# Altium footprint library IC_Texas_Instruments_LM2830XMF-NOPB_eec_0.PcbLib: 1 footprints
Each footprint in its own frame and in the unit in brackets; x right, y up, seen from the top. Pads: shape width x height; smd on the part's side, far side on the other; paste and mask are expansions set on the pad; w line width, h text height; cw(c..) or ccw(c..) is an arc to the next point about the centre after c.
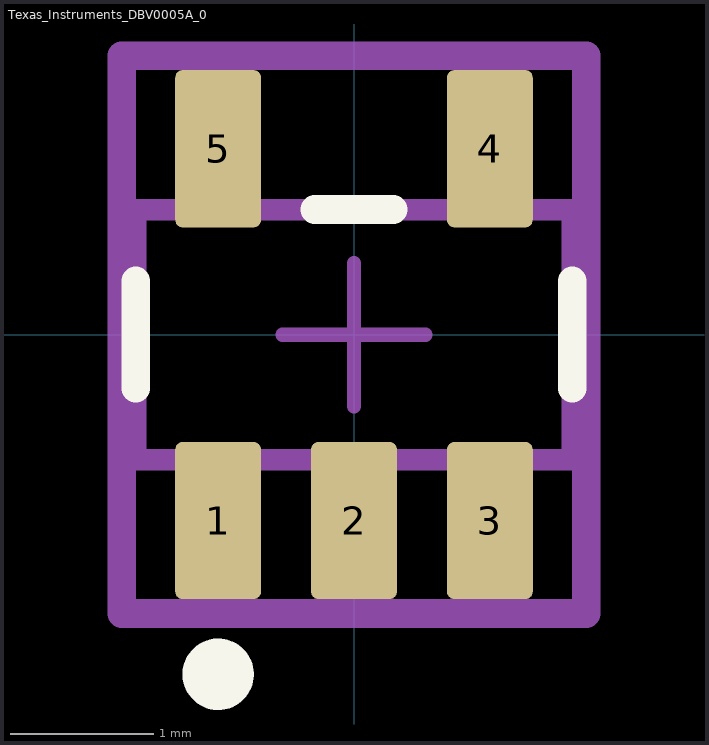
[diagram p0: the footprint, top view; thin cyan lines are the x and y axes]

## Texas_Instruments_DBV0005A_0 [mm]
pads (5):
  rrect17% 0.6x1.1 smd paste+0 mask+0: 1(-0.95,-1.3) 2(0,-1.3) 3(0.95,-1.3) 4(0.95,1.3) 5(-0.95,1.3)
Top Overlay:
  circle w0.25: c-0.95,-2.375 r0.125
  lines w0.2: -1.525,-0.375 -1.525,0.375 ; -0.275,0.875 0.275,0.875 ; 1.525,-0.375 1.525,0.375
Mechanical 10:
  lines w0.2: -1.625,-1.95 1.625,-1.95 1.625,1.95 -1.625,1.95 -1.625,-1.95
  text ".Designator" at 0,0 h1
Mechanical 12:
  lines w0.15: -1.525,-0.875 1.525,-0.875 1.525,0.875 -1.525,0.875 -1.525,-0.875
Mechanical 15:
  lines w0.1: -0.5,0 0.5,0 ; 0,-0.5 0,0.5
  lines w0.2: -1.625,-1.95 1.625,-1.95 1.625,1.95 -1.625,1.95 -1.625,-1.95
3D body "IC_Texas_Instruments_LM2830XMF-NOPB_eec.STEP": height 0.25, standoff 0, extent -1.625,-1.95 1.625,1.95